# EAGLE library part BEE-COUNTER-3_RESISTOR-ARRAY_BUSSED (library one_led)
Resistor Array http://industrial.panasonic.com/lecs/www-data/pdf/AOC0000/AOC0000CE3.pdf Digikey: U8470CT-ND Panasonic bussed EXB-E10
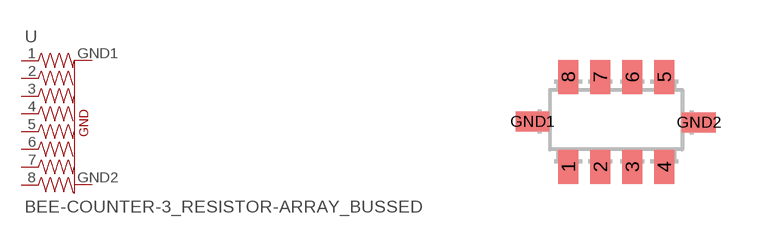
[diagram p0: symbol with the pads of BEE-COUNTER-3_1608_ARRAY; footprint BEE-COUNTER-3_1608_ARRAY]

Designator prefix -

## BEE-COUNTER-3_RESISTOR-ARRAY_BUSSED  [BEE-COUNTER-3_1608_ARRAY]
1  1  pas
2  2  pas
3  3  pas
4  4  pas
5  5  pas
6  6  pas
7  7  pas
8  8  pas
GND1  GND1  pas
GND2  GND2  pas

## Footprint BEE-COUNTER-3_1608_ARRAY (pad centres in mm)
smd 0.5 x 0.85: 1 -2.99,0.83; 2 -2.19,0.83; 3 -1.39,0.83; 4 -0.59,0.83; 5 -0.59,3.08; 6 -1.39,3.08; 7 -2.19,3.08; 8 -2.99,3.08
smd 0.85 x 0.5: GND1 -3.88,1.96; GND2 0.28,1.94